# Altium schematic symbol library IC_PWR.SchLib: 7 symbols
Pins are listed as number, name and electrical type; pins without a type are passive.

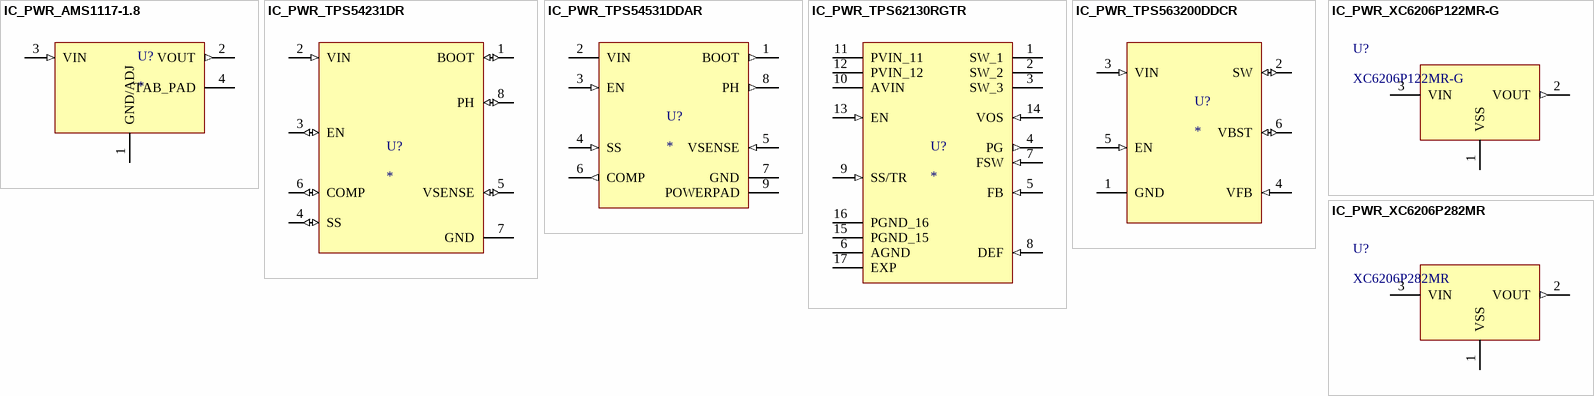
[diagram p0: symbols IC_PWR_AMS1117-1.8 to IC_PWR_XC6206P282MR]

## IC_PWR_AMS1117-1.8
designator U?
1.8V 1A  Adjustable/Fixed Low Dropout Linear Regulator; MP: AMS1117-1.8; Package: None; Price: None; Value: *; Availability: Unavailable
footprint PKG_SOT-233
pins: 1 GND/ADJ (power), 2 VOUT (out), 3 VIN (in), 4 TAB_PAD

## IC_PWR_TPS54231DR
designator U?
3.5 to 28V Input, 2A, 570kHz Step-Down Converter with Eco-modeâ„¢; Package: SOIC-8 Texas Instruments; Supplier: *; Supplier Part Number: *; Supplier URL: *
footprint PKG_SOIC-8 (SOIC, 8-Leads, Body 4.91x3.90mm, Pitch 1.27mm, IPC Medium Density)
pins: 1 BOOT (io), 2 VIN (in), 3 EN (io), 4 SS (io), 5 VSENSE (io), 6 COMP (io), 7 GND (power), 8 PH (io)

## IC_PWR_TPS54531DDAR
designator U?
Buck Switching Regulator IC Positive Adjustable 0.8V 1 Output 5A 8-PowerSOIC (0.154", 3.90mm Width); MP: TPS54531DDAR; Package: None; Price: None; Value: *; Availability: Unavailable
footprint IC_PWR_TPS54531DDAR
pins: 1 BOOT (out), 2 VIN (power), 3 EN (in), 4 SS (in), 5 VSENSE (in), 6 COMP (out), 7 GND (power), 8 PH (out), 9 POWERPAD (power)

## IC_PWR_TPS62130RGTR
designator U?
3-17V 3A Step-Down Converter with DCS-Control in 3x3 QFN Package; MF: Texas Instruments; MP: TPS62130RGTR; SnapEDA_Link: https://www.snapeda.com/parts/TPS62130RGTR/Texas+Instruments/view-part/?ref=snap; Package: VQFN-16 Texas Instruments; Value: *; Check_prices: https://www.snapeda.com/parts/TPS62130RGTR/Texas+Instruments/view-part/?ref=eda
footprint IC_PWR_TPS62130RGTR
pins: 1 SW_1 (power), 2 SW_2 (power), 3 SW_3 (power), 4 PG (out), 5 FB (in), 6 AGND (power), 7 FSW (in), 8 DEF (in), 9 SS/TR (in), 10 AVIN (power), 11 PVIN_11 (power), 12 PVIN_12 (power), 13 EN (in), 14 VOS (in), 15 PGND_15 (power), 16 PGND_16 (power), 17 EXP (power)

## IC_PWR_TPS563200DDCR
designator U?
17 V Input, 3A Synchronous Step-Down Regulator in SOT-23 with Advanced Eco-modeâ„¢; MF: Texas Instruments; MP: TPS563200DDCR; SnapEDA_Link: https://www.snapeda.com/parts/TPS563200DDCR/Texas+Instruments/view-part/?ref=snap; Package: SOT-23-THN-6 Texas Instruments; Value: *; Check_prices: https://www.snapeda.com/parts/TPS563200DDCR/Texas+Instruments/view-part/?ref=eda
footprint PKG_SOT-23-6
pins: 1 GND (power), 2 SW (io), 3 VIN (in), 4 VFB (in), 5 EN (in), 6 VBST (io)

## IC_PWR_XC6206P122MR-G
designator U?, comment XC6206P122MR-G
IC REG LINEAR 1.2V 60MA SOT23; Manufacturer_Name: Torex Semiconductor; Copyright: Copyright (C) 2025 Ultra Librarian. All rights reserved.; Manufacturer_Part_Number: XC6206P122MR-G; RefDes: RefDes; Type: Type
footprint PKG_SOT-23-3
pins: 1 VSS (power), 2 VOUT (out), 3 VIN (power)

## IC_PWR_XC6206P282MR
designator U?, comment XC6206P282MR
IC REG LINEAR 2.8V 100MA SOT23; Manufacturer_Name: Torex Semiconductor; Manufacturer_Part_Number: XC6206P122MR-G; Copyright: Copyright (C) 2025 Ultra Librarian. All rights reserved.; RefDes: RefDes; Type: Type
footprint PKG_SOT-23-3
pins: 1 VSS (power), 2 VOUT (out), 3 VIN (power)